# Altium footprint library MSOP.PcbLib: 3 footprints
Each footprint in its own frame and in the unit in brackets; x right, y up, seen from the top. Pads: shape width x height; smd on the part's side, far side on the other; paste and mask are expansions set on the pad; w line width, h text height; cw(c..) or ccw(c..) is an arc to the next point about the centre after c.
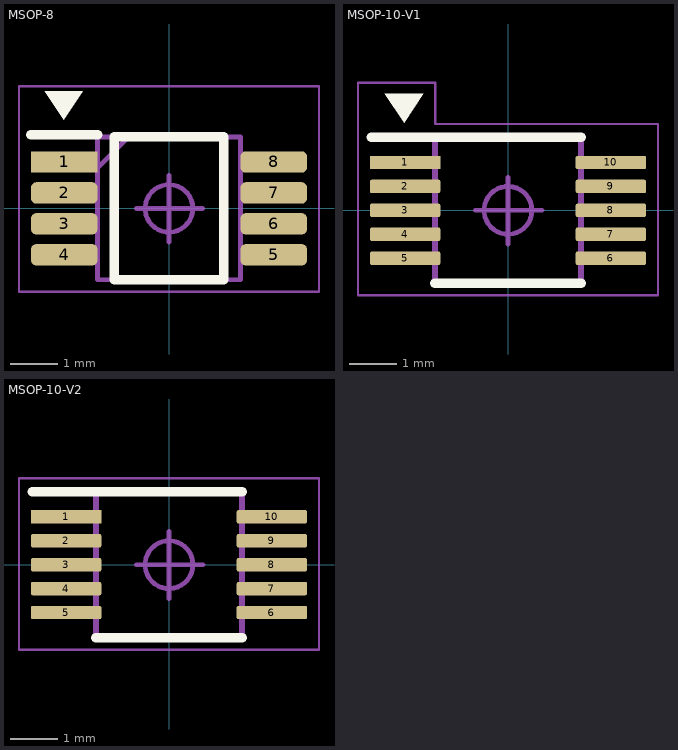
[diagram p0: the footprints below, top view; thin cyan lines are the x and y axes]

## MSOP-8 [mm]
pads (8):
  rect 1.4x0.45 smd: 1(-2.2,0.975)
  rrect50% 1.4x0.45 smd: 2(-2.2,0.325) 3(-2.2,-0.325) 4(-2.2,-0.975) 5(2.2,-0.975) 6(2.2,-0.325) 7(2.2,0.325) 8(2.2,0.975)
Top Overlay:
  region: -1.813,2.459 -2.613,2.459 -2.213,1.859
  lines w0.2: -2.9,1.55 -1.5,1.55 ; -1.15,-1.5 1.15,-1.5 1.15,1.5 -1.15,1.5 -1.15,-1.5
Top Assembly:
  lines w0.1: -1.5,0.85 -0.85,1.5 ; -1.5,-1.5 -1.5,1.5 1.5,1.5 1.5,-1.5 -1.5,-1.5
Top Component Outline:
  lines w0.05: -3.15,-1.75 -3.15,2.565 3.15,2.565 3.15,-1.75 -3.15,-1.75
Top Component Center:
  circle w0.1: c0,0 r0.5
  lines w0.1: -0.686,0 0.711,0 ; -0.001,-0.706 -0.001,0.691
3D body "MCP9808-E_MS.stp": height 1.1, standoff 0, extent -2.45,-1.5 2.45,1.5

## MSOP-10-V1 [mm]
pads (10):
  rect 1.47x0.28 smd: 1(-2.15,1)
  rrect25% 1.47x0.28 smd: 2(-2.15,0.5) 3(-2.15,0) 4(-2.15,-0.5) 5(-2.15,-1) 6(2.15,-1) 7(2.15,-0.5) 8(2.15,0) 9(2.15,0.5) 10(2.15,1)
Top Overlay:
  region: -1.772,2.433 -2.572,2.433 -2.172,1.833
  lines w0.2: -2.859,1.524 -1.459,1.524 ; -1.525,-1.525 1.525,-1.525 ; -1.525,1.525 1.525,1.525
Top Assembly:
  lines w0.127: -1.525,-1.525 -1.525,1.525 1.525,1.525 1.525,-1.525 -1.525,-1.525
Top Component Outline:
  lines w0.05: -3.135,-1.775 -3.135,2.667 -2.337,2.667 -1.524,2.667 -1.524,1.803 3.135,1.803 3.135,-1.775 -3.135,-1.775
Top Component Center:
  circle w0.1: c0,0 r0.5
  lines w0.1: -0.686,0 0.711,0 ; -0.001,-0.706 -0.001,0.691
3D body "step_temp.STEP": height 1.1, standoff 0, extent -2.45,-1.5 2.45,1.5

## MSOP-10-V2 [mm]
pads (10):
  rect 1.47x0.28 smd: 1(-2.15,1)
  rrect25% 1.47x0.28 smd: 2(-2.15,0.5) 3(-2.15,0) 4(-2.15,-0.5) 5(-2.15,-1) 6(2.15,-1) 7(2.15,-0.5) 8(2.15,0) 9(2.15,0.5) 10(2.15,1)
Top Overlay:
  lines w0.2: -2.859,1.524 -1.459,1.524 ; -1.525,-1.525 1.525,-1.525 ; -1.525,1.525 1.525,1.525
Top Assembly:
  lines w0.127: -1.525,-1.525 1.525,-1.525 1.525,1.525 -1.525,1.525 -1.525,-1.525
Top Component Outline:
  lines w0.05: -3.135,-1.775 -3.135,1.803 3.135,1.803 3.135,-1.775 -3.135,-1.775
Top Component Center:
  circle w0.1: c0,0 r0.5
  lines w0.1: -0.686,0 0.711,0 ; -0.001,-0.706 -0.001,0.691
3D body "step_temp.STEP": height 1.1, standoff 0, extent -2.45,-1.5 2.45,1.5